# Altium footprint library LPON_OTHER.PcbLib: 107 footprints (part 6 of 7)
Each footprint in its own frame and in the unit in brackets; x right, y up, seen from the top. Pads: shape width x height; smd on the part's side, far side on the other; paste and mask are expansions set on the pad; w line width, h text height; cw(c..) or ccw(c..) is an arc to the next point about the centre after c.
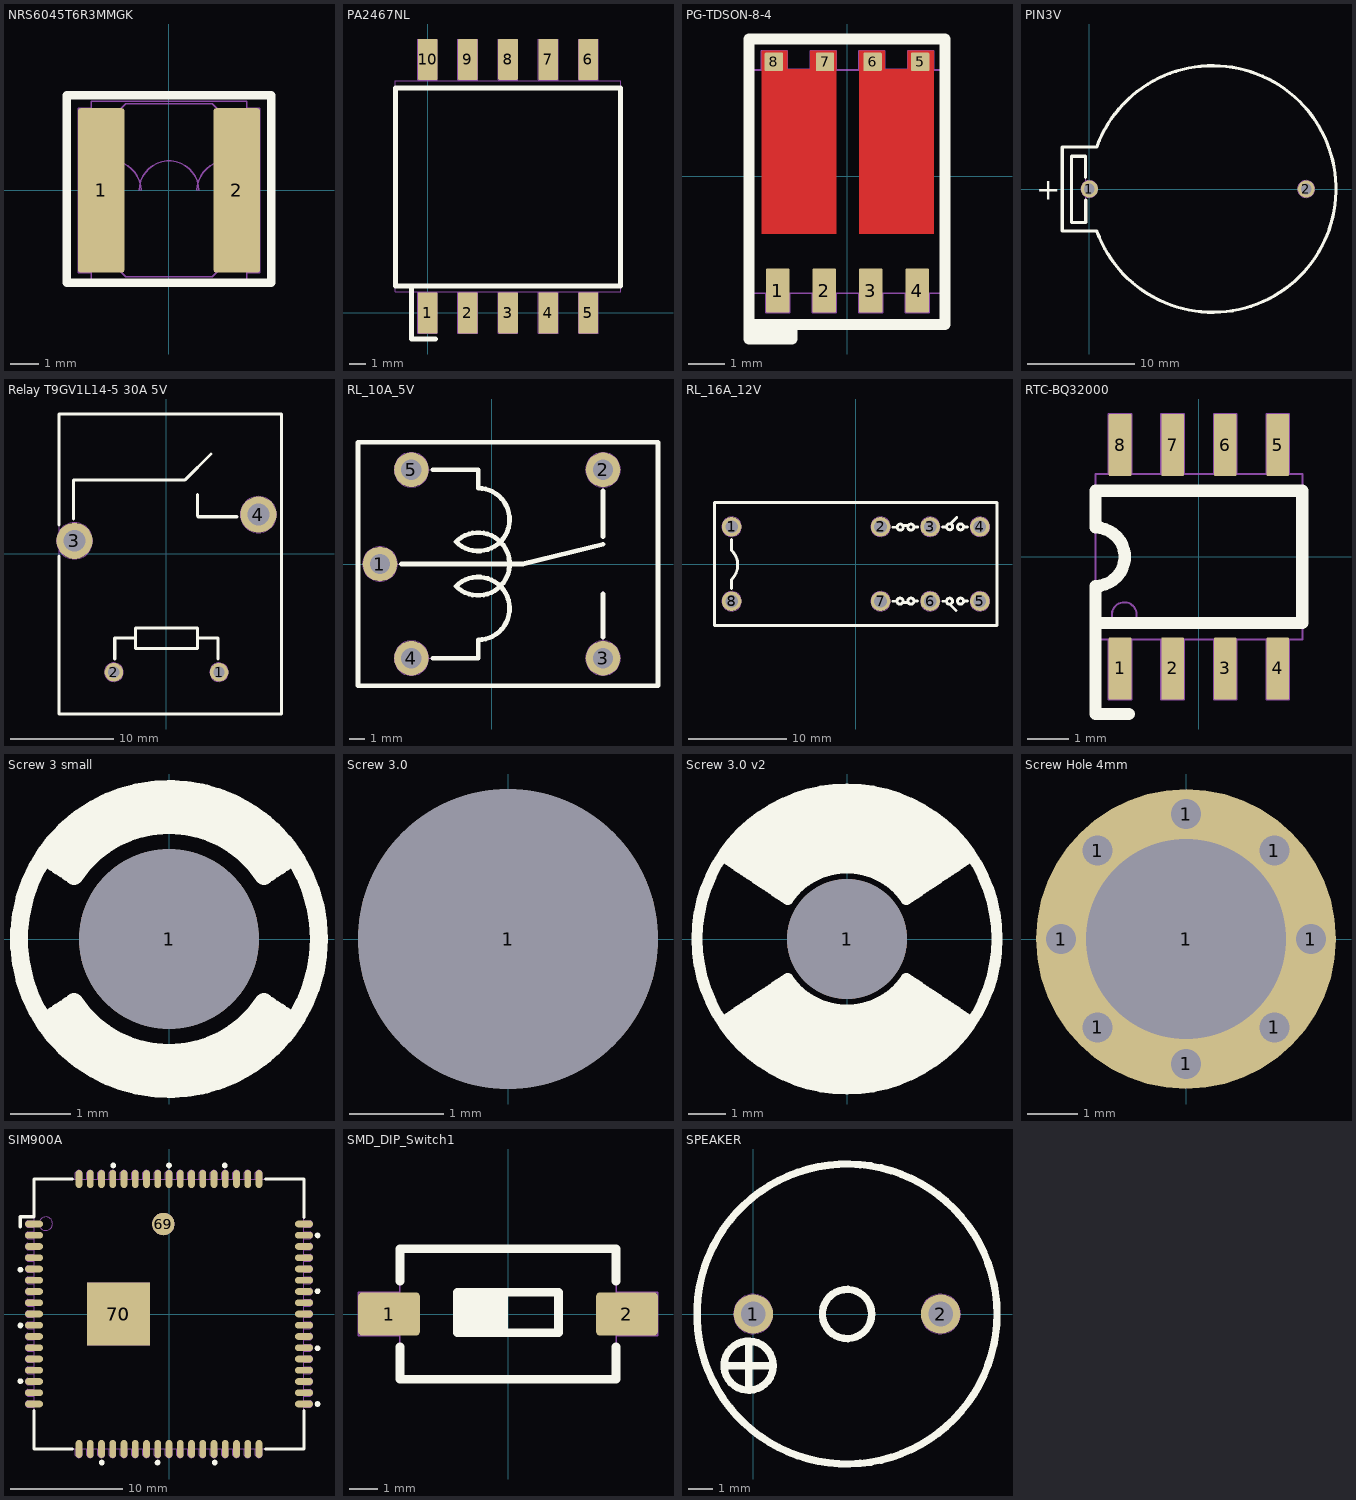
[diagram p5: the footprints below, top view; thin cyan lines are the x and y axes]

## NRS6045T6R3MMGK [mm] "FIXED IND 6.3UH 3A 46.8 MOHM SMD"
height 4.5
pads (2):
  rrect10% 1.6x5.7 smd mask+0.1: 1(-2.35,0) 2(2.35,0)
Top Overlay:
  lines w0.3: -3.55,-3.2 3.55,-3.2 3.55,3.3 -3.55,3.3 -3.55,-3.2
Mechanical 1:
  lines w0.05: -3.149,0 -3.03,0 cw(c-2,0) -0.97,0 ; -2.704,2.852 -3.149,2.852 -3.149,-2.85 -2.703,-2.85 -2.703,-2.854 ; -2.7,-1.8 -2.7,-3.1 2.7,-3.1 2.7,-1.8 ; -2.7,1.8 -2.7,3.1 2.7,3.1 2.7,1.8 ; -1.03,0 cw(c0,0) 1.03,0 ; 0.97,0 cw(c2,0) 3.03,0 3.149,0 ; 2.703,2.85 3.149,2.85 3.149,-2.852 2.704,-2.852 ; -3.1,-1.4 -3.1,1.4 -1.5,3 1.5,3 3.1,1.4 3.1,-1.4 1.5,-3 -1.5,-3 -3.1,-1.4
3D body "User Library-SMDpowerInductor.step": height 3, standoff 0, extent -2.35,-2.45 2.55,2.45

## PA2467NL [mm] "PULSE XFMR 37UH"
height 12.32
pads (10):
  rrect10% 1.22x2.54 smd mask+0.1: 1(0,0) 2(2.5,0) 3(5,0) 4(7.5,0) 5(10,0) 6(10,15.76) 7(7.5,15.76) 8(5,15.76) 9(2.5,15.76) 10(0,15.76)
Top Overlay:
  lines w0.3: -1.1,1.68 -1,1.68 -1,-1.62 0.5,-1.62 ; -2,1.68 12,1.68 12,13.98 -2,13.98 -2,1.68
Mechanical 1:
  lines w0.05: -2,1.325 12,1.325 12,14.435 -2,14.435 -2,1.325 ; -0.61,-1.27 0.61,-1.27 0.61,1.27 -0.61,1.27 -0.61,-1.27 ; -0.61,14.49 0.61,14.49 0.61,17.03 -0.61,17.03 -0.61,14.49 ; 1.89,-1.27 1.89,1.27 3.11,1.27 3.11,-1.27 1.89,-1.27 ; 1.89,14.49 3.11,14.49 3.11,17.03 1.89,17.03 1.89,14.49 ; 4.39,-1.27 4.39,1.27 5.61,1.27 5.61,-1.27 4.39,-1.27 ; 4.39,14.49 5.61,14.49 5.61,17.03 4.39,17.03 4.39,14.49 ; 6.89,-1.27 6.89,1.27 8.11,1.27 8.11,-1.27 6.89,-1.27 ; 6.89,14.49 8.11,14.49 8.11,17.03 6.89,17.03 6.89,14.49 ; 9.39,-1.27 9.39,1.27 10.61,1.27 10.61,-1.27 9.39,-1.27 ; 9.39,14.49 9.39,17.03 10.61,17.03 10.61,14.49 9.39,14.49
  text "1" at -0.2,2.08 h1
  text "5" at 9.8,2.08 h1
  text "6" at 9.8,12.78 h1
  text "10" at -0.7,12.78 h1
3D body "Coilcraft-PA6284-AL.step": height 12.65, standoff -0.05, extent -1.71,-1.035 11.75,16.715

## PG-TDSON-8-4 [mm] "Dual N-Channel MOSFET"
height 1
pads (8):
  rrect10% 0.65x1.2 smd mask+0.1: 1(-1.89,-3.125) 2(-0.62,-3.125) 3(0.65,-3.125) 4(1.92,-3.125)
  rrect10% 0.5x0.5 smd mask+0.1: 5(2,3.125) 6(0.7,3.125) 7(-0.6,3.125) 8(-2,3.125)
Top Layer:
  region: -1.635,2.925 -1.635,3.425 -2.335,3.425 -2.335,-1.575 -0.3,-1.575 -0.3,3.425 -1,3.425 -1,2.925
  region: 0.33,-1.575 0.33,3.425 1.03,3.425 1.03,2.925 1.665,2.925 1.665,3.425 2.365,3.425 2.365,-1.575
Top Overlay:
  lines w0.3: -2.675,-4.45 -1.5,-4.45 -1.5,-4.05 -1.5,-4.25 -2.675,-4.25 -2.675,-4.05 2.675,-4.05 2.675,3.75 -2.675,3.75 -2.675,-4.45
Mechanical 1:
  lines w0.05: -2.335,2.9 -2.335,3.425 ; -2.335,2.9 -2.335,3.425 ; -2.335,2.9 -0.3,2.9 ; -2.335,3.425 -1.635,3.425 ; -2.335,3.425 -1.635,3.425 ; -2.335,3.425 -1.635,3.425 ; -1.635,2.925 -1.635,3.425 ; -1.635,2.925 -1,2.925 ; -1.635,2.925 -1,2.925 ; -1.635,2.925 -1.635,3.425 ; -1,2.925 -1,3.425 ; -1,2.925 -1,3.425 ; -1,3.425 -0.3,3.425 ; -1,3.425 -0.3,3.425 ; -0.3,2.9 -0.3,3.425 ; -0.3,2.9 -0.3,3.425 ; 0.33,2.9 2.365,2.9 ; 0.33,2.9 0.33,3.425 ; 0.33,2.9 0.33,3.425 ; 0.33,2.9 2.365,2.9 ; 0.33,3.425 1.03,3.425 ; 0.33,3.425 1.03,3.425 ; 1.03,2.925 1.665,2.925 ; 1.03,2.925 1.03,3.425 ; 1.03,2.925 1.03,3.425 ; 1.03,2.925 1.665,2.925 ; 1.665,2.925 1.665,3.425 ; 1.665,2.925 1.665,3.425 ; 1.665,3.425 2.365,3.425 ; 1.665,3.425 2.365,3.425 ; 2.365,2.9 2.365,3.425 ; 2.365,2.9 2.365,3.425 ; -2.675,-3.2 -2.675,2.9 2.675,2.9 2.675,-3.2 -2.675,-3.2 ; -2.215,-3.725 -2.215,-3.2 -1.565,-3.2 -1.565,-3.725 -2.215,-3.725 ; -0.945,-3.725 -0.295,-3.725 -0.295,-3.2 -0.945,-3.2 -0.945,-3.725 ; 0.325,-3.725 0.975,-3.725 0.975,-3.2 0.325,-3.2 0.325,-3.725 ; 1.595,-3.725 2.245,-3.725 2.245,-3.2 1.595,-3.2 1.595,-3.725
  text "S1" at -1.6,-3.05 h0.6
  text "G1" at -0.3,-3 h0.6
  text "S2" at 0.95,-3 h0.6
  text "G2" at 2.2,-3 h0.6
  text "D1" at -1.1,1.8 h0.6
  text "D2" at 1.7,1.7 h0.6

## PIN3V [mm] "Socket PIN 3V"
pads (2):
  round 1.6 hole 1: 1(0,0) 2(20.32,0)
Top Overlay:
  lines w0.3: -0.356,1.07 -0.356,3.073 -1.676,3.073 -1.676,-3.15 -0.33,-3.15 -0.33,-1.06 ; 0.669,3.937 -2.54,3.937 -2.54,-3.937 0.709,-3.937 ; 0.701,3.964 cw(c11.557,0) 0.709,-3.987
  text "+" at -5,-1 h2
Mechanical 1:
  circle w0.05: c0,0 r0.8
  circle w0.05: c20.32,0 r0.8
  lines w0.05: -0.356,0.72 -0.356,3.073 -1.676,3.073 -1.676,-3.15 -0.33,-3.15 -0.33,-0.73 ; 0.669,3.937 -2.54,3.937 -2.54,-3.937 0.709,-3.937 ; 0.701,3.964 cw(c11.557,0) 0.709,-3.987
  text "+" at 2,-1 h2
  text "-" at 16.9,-1 h2
  text "1" at -0.19,-0.54 h1.2
  text "2" at 19.93,-0.54 h1.2

## QMatrix_button [mm] "Qtouch 2 sides"

## Relay T9GV1L14-5 30A 5V [mm] "Relay T9GV1L14-5 30A 5V CODE FORM C"
height 15.7
pads (4):
  round 1.8 hole 1.1: 1(5.08,-11.43) 2(-5.08,-11.43)
  round 3.5 hole 2.1: 3(-8.89,1.27) 4(8.89,3.81)
Top Overlay:
  lines w0.3: -10.37,-0.2 -10.37,-15.47 11.13,-15.47 11.13,13.53 -10.37,13.53 -10.37,2.8 ; -9,3.4 -9,7.16 1.8,7.16 4.3,9.66 ; -5,-10.14 -5,-8.14 -3,-8.14 ; 3,-8.14 5,-8.14 5,-10.14 ; 3,5.76 3,3.66 3.06,3.6 6.8,3.6 ; -3,-9.14 3,-9.14 3,-7.14 -3,-7.14 -3,-9.14
Mechanical 2:
  circle w0.05: c-8.89,1.27 r1.75
  circle w0.05: c8.89,3.81 r1.75
  circle w0.05: c5.08,-11.43 r0.9
  circle w0.05: c-5.08,-11.43 r0.9
  lines w0.05: -10.37,-15.47 -10.37,13.53 11.13,13.53 11.13,-15.47 -10.37,-15.47
  text "4" at 8.6,3.2 h1
  text "3" at -9.2,0.8 h1
  text "1" at 4.8,-12 h1
  text "2" at -5.3,-12 h1
3D body: height 15.7, standoff 0, extent -10.37,-15.47 11.13,13.53

## RL_10A_5V [mm] "Relay SRD-05VDC-SL-C, 5 pin, 10A,19.1X15.5"
height 15.3
pads (5):
  round 2.2 hole 1.3 mask+0.1: 1(-7.1,0) 2(7.1,6) 3(7.1,-6) 4(-5.1,-6) 5(-5.1,6)
Top Overlay:
  lines w0.3: -5.75,0 2,0 7.1,1.25 ; -3.75,-6 -0.85,-6 -0.85,-4.828 ccw(c-0.85,-2.828) -2.264,-1.414 ccw(c-0.85,0) -2.264,1.414 ccw(c-0.85,2.828) -0.85,4.828 -0.85,6 -3.75,6 ; 7.1,-4.65 7.1,-1.9 ; 7.1,1.75 7.1,4.65 ; -8.5,-7.75 -8.5,7.75 10.6,7.75 10.6,-7.75 -8.5,-7.75
Mechanical 2:
  circle w0.05: c-5.1,-6 r1.1
  circle w0.05: c-7.1,0 r1.1
  circle w0.05: c-5.1,6 r1.1
  circle w0.05: c7.1,-6 r1.1
  circle w0.05: c7.1,6 r1.1
  lines w0.05: -6,0 2,0 7.1,1.25 ; -4,-6 -0.85,-6 -0.85,-4.828 ccw(c-0.85,-2.828) -2.264,-1.414 ccw(c-0.85,0) -2.264,1.414 ccw(c-0.85,2.828) -0.85,4.828 -0.85,6 -4,6 ; 7.1,-4.9 7.1,-1.75 ; 7.1,1.75 7.1,4.9 ; -8.5,-7.75 -8.5,7.75 10.6,7.75 10.6,-7.75 -8.5,-7.75
  text "1" at -7.2,-0.4 h0.8
  text "4" at -5.4,-6.4 h0.8
  text "5" at -5.35,5.6 h0.8
  text "NO" at 4.45,-6.5 h0.8
  text "NC" at 4.45,5.65 h0.8
  text "3" at 6.8,-6.4 h0.8
  text "2" at 6.8,5.6 h0.8
  text "COIL" at -6.45,-4.8 h0.8
  text "COIL" at -6.45,3.95 h0.8
  text "COM" at -8.15,1.2 h0.8
3D body "User Library-SONGLE Relay SRU-12VDC-SL-C.STEP": height 15.8, standoff -4.5, extent -8.5,-7.75 10.6,7.75

## RL_16A_12V [mm] "Reley SMIH-12VDC-SL-C 8 pin, 28.9*12.6"
height 20.6
pads (8):
  round 2 hole 1.3: 1(-12.7,3.81) 2(2.54,3.81) 3(7.62,3.81) 4(12.7,3.81) 5(12.7,-3.81) 6(7.62,-3.81) 7(2.54,-3.81) 8(-12.7,-3.81)
Top Overlay:
  circle w0.3: c10.72,3.8 r0.311
  circle w0.3: c9.61,3.81 r0.311
  circle w0.3: c5.63,3.77 r0.311
  circle w0.3: c4.55,3.77 r0.311
  circle w0.3: c4.53,-3.8 r0.311
  circle w0.3: c5.64,-3.8 r0.311
  circle w0.3: c9.6,-3.81 r0.311
  circle w0.3: c10.72,-3.8 r0.311
  lines w0.3: -12.725,-2.5 -12.725,-1.6 ; -12.7,-1.575 ccw(c-14.16,-0.089) -12.675,1.372 ; -12.7,1.397 -12.7,2.49 ; 3.82,-3.81 4.2,-3.81 ; 3.83,3.76 4.24,3.76 ; 4.84,3.937 5.33,3.937 ; 4.89,-3.937 5.32,-3.937 ; 5.941,3.77 6.34,3.77 ; 5.951,-3.8 6.33,-3.8 ; 8.89,3.79 9.27,3.79 ; 8.9,-3.81 9.29,-3.81 ; 9.655,-4.135 10.265,-4.744 ; 9.725,4.145 10.335,4.754 ; 11.031,-3.8 11.42,-3.8 ; 11.031,3.8 11.43,3.8 ; -14.45,-6.3 -14.45,6.3 14.45,6.3 14.45,-6.3 -14.45,-6.3
Mechanical 1:
  circle w0.05: c4.55,3.77 r0.311
  circle w0.05: c4.53,-3.8 r0.311
  circle w0.05: c5.64,-3.8 r0.311
  circle w0.05: c9.6,-3.81 r0.311
  circle w0.05: c10.72,-3.8 r0.311
  circle w0.05: c5.63,3.77 r0.311
  circle w0.05: c9.61,3.81 r0.311
  circle w0.05: c10.72,3.8 r0.311
  circle w0.05: c-12.7,-3.81 r1
  circle w0.05: c-12.7,3.81 r1
  circle w0.05: c2.54,3.81 r1
  circle w0.05: c7.62,3.81 r1
  circle w0.05: c12.7,3.81 r1
  circle w0.05: c12.7,-3.81 r1
  circle w0.05: c7.62,-3.81 r1
  circle w0.05: c2.54,-3.81 r1
  lines w0.05: -12.725,-2.5 -12.725,-1.6 ; -12.7,-1.575 ccw(c-14.16,-0.089) -12.675,1.372 ; -12.7,1.397 -12.7,2.49 ; 3.82,-3.81 4.2,-3.81 ; 3.83,3.76 4.24,3.76 ; 4.84,3.937 5.33,3.937 ; 4.89,-3.937 5.32,-3.937 ; 5.941,3.77 6.34,3.77 ; 5.951,-3.8 6.33,-3.8 ; 8.89,3.79 9.27,3.79 ; 8.9,-3.81 9.29,-3.81 ; 9.655,-4.135 10.265,-4.744 ; 9.725,4.145 10.335,4.754 ; 11.031,-3.8 11.42,-3.8 ; 11.031,3.8 11.43,3.8 ; -14.45,-6.3 14.45,-6.3 14.45,6.3 -14.45,6.3 -14.45,-6.3
  text "1" at -12.88,3.22 h1.2
  text "2" at 2.2,3.29 h1.2
  text "3" at 7.3,3.25 h1.2
  text "4" at 12.31,3.23 h1.2
  text "5" at 12.37,-4.41 h1.2
  text "6" at 7.12,-4.32 h1.2
  text "7" at 2.18,-4.5 h1.2
  text "8" at -13.09,-4.36 h1.2

## RTC-BQ32000 [mm] "8-SOIC"
height 1.75
pads (8):
  rrect10% 0.55x1.5 smd mask+0.1: 1(-1.905,-2.7) 2(-0.635,-2.7) 3(0.635,-2.7) 4(1.905,-2.7) 5(1.905,2.7) 6(0.635,2.7) 7(-0.635,2.7) 8(-1.905,2.7)
Top Overlay:
  lines w0.3: -1.7,-3.8 -2.5,-3.8 -2.5,-1.6 ; -2.5,-1.6 -2.5,-0.707 ccw(c-2.5,0) -2.5,0.707 -2.5,1.6 2.5,1.6 2.5,-1.6 -2.5,-1.6
Mechanical 1:
  circle w0.05: c-1.805,-1.4 r0.3
  lines w0.05: -2.5,-0.78 ccw(c-2.5,0) -2.5,0.78 ; -2.18,-2 -2.18,-3.45 ; -1.63,-2.007 -1.63,-3.45 ; -0.91,-2.007 -0.91,-3.45 ; -0.91,2 -0.91,3.45 -0.36,3.45 -0.36,2 ; -0.36,-2 -0.36,-3.45 ; 0.36,-2 0.36,-3.45 ; 0.36,2.007 0.36,3.45 0.91,3.45 0.91,2 ; 0.91,-2 0.91,-3.45 ; 1.63,-2.007 1.63,-3.45 ; 1.63,2.007 1.63,3.45 2.18,3.45 2.18,2 ; 2.18,-2.007 2.18,-3.45 ; -2.18,-3.45 -1.63,-3.45 ; -2.18,-3.45 -1.63,-3.45 ; -2.18,-3.45 -1.63,-3.45 ; -2.18,-3.45 -1.63,-3.45 ; -2.18,2 -1.63,2 -1.63,3.45 ; -2.18,2 -2.18,3.45 ; -2.18,2 -2.18,3.45 ; -2.18,3.45 -1.63,3.45 ; -2.18,3.45 -1.63,3.45 ; -0.91,-3.45 -0.36,-3.45 ; -0.91,-3.45 -0.36,-3.45 ; 0.36,-3.45 0.91,-3.45 ; 0.36,-3.45 0.91,-3.45 ; 1.63,-3.45 2.18,-3.45 ; 1.63,-3.45 2.18,-3.45 ; -2.5,-2 2.5,-2 2.5,2 -2.5,2 -2.5,-2
  text "8" at -2,2.5 h0.4
  text "5" at 1.8,2.5 h0.4
  text "4" at 1.8,-2.9 h0.4
  text "1" at -2,-2.9 h0.4
  text "IC?" at 0,0 h1

## Screw 3 small [mm] "Hole 3mm, outline 5mm"
height 10
pads (1):
  round 3 hole 3 mask+0.1: 1(0,0)
Top Overlay:
  circle w0.3: c0,0 r2.5
  lines w0.3: -1.997,-1.331 ccw(c0,0) 1.997,-1.331 ; -1.997,1.331 cw(c0,0) 1.997,1.331 ; -1.831,-1.22 ccw(c0,0) 1.831,-1.22 ; -1.831,1.22 cw(c0,0) 1.831,1.22 ; -1.747,-1.165 ccw(c0,0) 1.747,-1.165 ; -1.747,1.165 cw(c0,0) 1.747,1.165 ; -1.664,-1.109 ccw(c0,0) 1.664,-1.109 ; -1.664,1.109 cw(c0,0) 1.664,1.109 ; -1.581,-1.054 ccw(c0,0) 1.581,-1.054 ; -1.581,1.054 cw(c0,0) 1.581,1.054 ; -2.08,-1.387 ccw(c0,0) 2.08,-1.387 cw(c0,0) -2.08,-1.387 ; -2.08,1.387 cw(c0,0) 2.08,1.387 ccw(c0,0) -2.08,1.387 ; -1.914,-1.276 ccw(c0,0) 1.914,-1.276 cw(c0,0) -1.914,-1.276 ; -1.914,1.276 cw(c0,0) 1.914,1.276 ccw(c0,0) -1.914,1.276
3D body "Screw-3mmX10mm.step": height 1.73, standoff -10, extent -2.5,-2.5 2.5,2.5

## Screw 3.0 [mm] "Hole 3.2mm outline 8mm"
height 10
pads (1):
  round 3.2 hole 3.2 mask+0.1: 1(0,0)

## Screw 3.0 v2 [mm] "Hole 3.2mm outline 8mm"
height 10
pads (1):
  round 3.2 hole 3.2 mask+0.1: 1(0,0)
Top Overlay:
  circle w0.3: c0,0 r4
  lines w0.3: -3.162,-2.108 ccw(c0,0) 3.162,-2.108 ; -3.162,2.108 cw(c0,0) 3.162,2.108 ; -3.079,-2.052 ccw(c0,0) 3.079,-2.052 ; -3.079,2.052 cw(c0,0) 3.079,2.052 ; -2.995,-1.997 ccw(c0,0) 2.995,-1.997 ; -2.995,1.997 cw(c0,0) 2.995,1.997 ; -2.912,-1.941 ccw(c0,0) 2.912,-1.941 ; -2.912,1.941 cw(c0,0) 2.912,1.941 ; -2.829,-1.886 ccw(c0,0) 2.829,-1.886 ; -2.829,1.886 cw(c0,0) 2.829,1.886 ; -2.746,-1.831 ccw(c0,0) 2.746,-1.831 ; -2.746,1.831 cw(c0,0) 2.746,1.831 ; -2.663,-1.775 ccw(c0,0) 2.663,-1.775 ; -2.663,1.775 cw(c0,0) 2.663,1.775 ; -2.579,-1.72 ccw(c0,0) 2.579,-1.72 ; -2.579,1.72 cw(c0,0) 2.579,1.72 ; -2.496,-1.664 ccw(c0,0) 2.496,-1.664 ; -2.496,1.664 cw(c0,0) 2.496,1.664 ; -2.33,-1.553 ccw(c0,0) 2.33,-1.553 ; -2.33,1.553 cw(c0,0) 2.33,1.553 ; -2.247,-1.498 ccw(c0,0) 2.247,-1.498 ; -2.247,1.498 cw(c0,0) 2.247,1.498 ; -2.163,-1.442 ccw(c0,0) 2.163,-1.442 ; -2.163,1.442 cw(c0,0) 2.163,1.442 ; -1.997,-1.331 ccw(c0,0) 1.997,-1.331 ; -1.997,1.331 cw(c0,0) 1.997,1.331 ; -1.831,-1.22 ccw(c0,0) 1.831,-1.22 ; -1.831,1.22 cw(c0,0) 1.831,1.22 ; -1.747,-1.165 ccw(c0,0) 1.747,-1.165 ; -1.747,1.165 cw(c0,0) 1.747,1.165 ; -1.664,-1.109 ccw(c0,0) 1.664,-1.109 ; -1.664,1.109 cw(c0,0) 1.664,1.109 ; -1.581,-1.054 ccw(c0,0) 1.581,-1.054 ; -1.581,1.054 cw(c0,0) 1.581,1.054 ; -2.413,-1.609 ccw(c0,0) 2.413,-1.609 cw(c0,0) -2.413,-1.609 ; -2.413,1.609 cw(c0,0) 2.413,1.609 ccw(c0,0) -2.413,1.609 ; -2.08,-1.387 ccw(c0,0) 2.08,-1.387 cw(c0,0) -2.08,-1.387 ; -2.08,1.387 cw(c0,0) 2.08,1.387 ccw(c0,0) -2.08,1.387 ; -1.914,-1.276 ccw(c0,0) 1.914,-1.276 cw(c0,0) -1.914,-1.276 ; -1.914,1.276 cw(c0,0) 1.914,1.276 ccw(c0,0) -1.914,1.276
3D body "Screw-3mmX10mm.step": height 1.73, standoff -10, extent -2.5,-2.5 2.5,2.5

## Screw Hole 4mm [mm]
pads (9):
  round 0.6 hole 0.6: 1(-2.5,0) 1(-1.768,-1.768) 1(-1.768,1.768) 1(0,-2.5) 1(0,2.5) 1(1.768,-1.768) 1(1.768,1.768) 1(2.5,0)
  round 6 hole 4: 1(0,0)

## SIM900A [mm] "SIM900A_SMD"
height 2
pads (72):
  oval 1.6x0.6 smd: 1(-12,8) 2(-12,7) 3(-12,6) 4(-12,5) 5(-12,4) 6(-12,3) 7(-12,2) 8(-12,1) 9(-12,0) 10(-12,-1) 11(-12,-2) 12(-12,-3) 13(-12,-4) 14(-12,-5) 15(-12,-6) 16(-12,-7) 17(-12,-8) 35(12,-8) 36(12,-7) 37(12,-6) 38(12,-5) 39(12,-4) 40(12,-3) 41(12,-2) 42(12,-1) 43(12,0) 44(12,1) 45(12,2) 46(12,3) 47(12,4) 48(12,5) 49(12,6) 50(12,7) 51(12,8)
  oval 0.6x1.6 smd: 18(-8,-12) 19(-7,-12) 20(-6,-12) 21(-5,-12) 22(-4,-12) 23(-3,-12) 24(-2,-12) 25(-1,-12) 26(0,-12) 27(1,-12) 28(2,-12) 29(3,-12) 30(4,-12) 31(5,-12) 32(6,-12) 33(7,-12) 34(8,-12) 52(8,12) 53(7,12) 54(6,12) 55(5,12) 56(4,12) 57(3,12) 58(2,12) 59(1,12) 60(0,12) 61(-1,12) 62(-2,12) 63(-3,12) 64(-4,12) 65(-5,12) 66(-6,12) 67(-7,12) 68(-8,12)
  round 2 smd mask+0.1: 69(-0.5,8)
  round 2 on Mech1 mask+0.1: 69(-0.5,8)
  rect 5.6x5.6 smd mask+0.1: 70(-4.5,0)
  rect 5.6x5.6 on Mech1 mask+0.1: 70(-4.5,0)
Top Overlay:
  circle w0.254: c-4.953,13.208 r0.127
  circle w0.254: c0,13.208 r0.127
  circle w0.254: c4.953,13.208 r0.127
  circle w0.254: c13.208,6.985 r0.127
  circle w0.254: c13.208,2.032 r0.127
  circle w0.254: c13.208,-3.048 r0.127
  circle w0.254: c13.208,-8.001 r0.127
  circle w0.254: c4.064,-13.208 r0.127
  circle w0.254: c-1.016,-13.208 r0.127
  circle w0.254: c-5.969,-13.208 r0.127
  circle w0.254: c-13.208,-5.969 r0.127
  circle w0.254: c-13.208,-1.016 r0.127
  circle w0.254: c-13.208,3.937 r0.127
  lines w0.3: -13.208,7.747 -13.208,8.636 -12,8.636 -12,12 -8.6,12 ; -12,-8.6 -12,-12 -8.6,-12 ; 8.6,-12 12,-12 12,-8.6 ; 8.6,12 12,12 12,8.6
Mechanical 1:
  drawing of 209 lines, arcs and shapes, not listed
  text "SIM?" at 0,-0.1 h1
  text "17" at -11.46,-8.382 h1.2
  text "18" at -8.382,-11.46 h1.2
  text "34" at 7.62,-11.46 h1.2
  text "35" at 10.444,-8.382 h1.2
  text "51" at 10.444,7.62 h1.2
  text "52" at 7.62,10.698 h1.2
  text "68" at -8.636,10.698 h1.2
3D body "SIM900.step": height 3.02, standoff 0, extent -12,-12 12,12

## SMD_DIP_Switch1 [mm] "SMD DIP Switch 2pin, 2.54mm"
height 4.45
pads (2):
  rrect20% 2.15x1.5 smd mask+0.1: 1(-4.125,0) 2(4.125,0)
Top Overlay:
  rectangle: -1.75,-0.65 -0.15,0.75
  lines w0.3: -3.745,-1.13 -3.745,-2.26 3.745,-2.26 3.745,-1.13 ; -3.745,1.13 -3.745,2.26 3.745,2.26 3.745,1.13 ; -0.15,-0.65 -0.15,0.75 ; -1.75,-0.65 -1.75,0.75 1.75,0.75 1.75,-0.65 -1.75,-0.65
Mechanical 1:
  rectangle: -1.75,-0.65 0,0.75
  lines w0.05: -0.15,-0.65 -0.15,0.75 ; -5.2,-0.75 -3.745,-0.75 -3.745,0.75 -5.2,0.75 -5.2,-0.75 ; -3.745,-2.26 3.745,-2.26 3.745,2.26 -3.745,2.26 -3.745,-2.26 ; -1.75,-0.65 1.75,-0.65 1.75,0.75 -1.75,0.75 -1.75,-0.65 ; 3.745,-0.75 5.2,-0.75 5.2,0.75 3.745,0.75 3.745,-0.75
  text "1" at -2.025,-0.1 h0.8
  text "ON" at 2.875,-0.6 h0.8

## SPEAKER [mm] "TMB12A05"
height 9.7
pads (2):
  round 1.6 hole 1 mask+0.1: 1(0,0) 2(7.62,0)
Top Overlay:
  circle w0.3: c3.81,0 r1
  circle w0.3: c3.81,0 r6.1
  circle w0.3: c-0.19,-2.1 r1
  lines w0.3: -1.19,-2.1 0.81,-2.1 ; -0.19,-3.1 -0.19,-1.1
Mechanical 2:
  circle w0.05: c3.81,0 r6.1
  circle w0.05: c7.62,0 r0.8
  circle w0.05: c-0.19,-2.1 r1
  circle w0.05: c3.81,0 r1
  circle w0.05: c0,0 r0.8
  lines w0.05: -1.19,-2.1 0.81,-2.1 ; -0.19,-3.1 -0.19,-1.1
  text "2" at 7.32,-0.6 h1.2
  text "1" at -0.2,-0.5 h1.2
3D body "User Library-Buzzer14mm.step": height 7.35, standoff -3.1, extent -3,-7 11,7